# Altium schematic symbol library Resistors.SchLib: 6 symbols
Pins are listed as number, name and electrical type; pins without a type are passive.

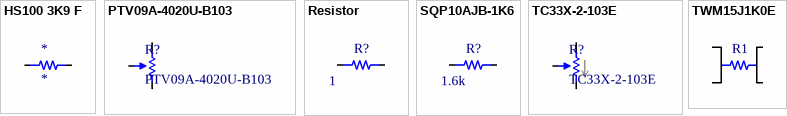
[diagram p0: symbols HS100 3K9 F to TWM15J1K0E]

## HS100 3K9 F
designator *
pins: 1, 2

## PTV09A-4020U-B103
designator R?
10k Ohm 1 Gang Linear Through Hole, Snap In Potentiometer None 1 Kierros Carbon 0.05W, 1/20W PC Pins, Board Locks; ComponentLink1Description: Digikey; ComponentLink1URL: https://www.digikey.com/en/products/detail/bourns-inc/TC33X-2-103E/612911; Value: 10k; Power: 1/20W
footprint PTV09A (HORIZONTAL/REAR MOUNT ROTARY POT)
pins: 1, 2, 3

## Resistor
designator R?  value 1
Tolerance: *
footprint 0603_RES (Chip Resistor, 2-Leads, Body 1.60x0.80mm, IPC Medium Density)
footprint 0805_RES (Chip Resistor, 2-Leads, Body 2.00x1.25mm, IPC Medium Density)
footprint 1206_RES
footprint 2010_RES (Chip Resistor, Body 5.0x2.5mm, IPC High Density)
footprint 2512_RES
pins: 1, 2

## SQP10AJB-1K6
designator R?  value 1.6k
Tolerance: *
footprint SQP10A
pins: 1, 2

## TC33X-2-103E
designator R?
0.1W, 1/10W J Lead Surface Mount Trimmer Potentiometer Cermet Turn Top Adjustment; Value: 10k; ComponentLink1Description: Digikey; ComponentLink1URL: https://www.digikey.com/en/products/detail/bourns-inc/TC33X-2-103E/612911; Power: 1/10W
footprint 35WR
pins: 1, 2, 3

## TWM15J1K0E
designator R1
Metal Oxide Resistors 1K ohm 15W 5% Ceramic Radial; Tolerance: 15%; Resistance: 1k; Power Rating: 15W; ComponentLink1Description: Mouser; ComponentLink1URL: https://www.mouser.com/ProductDetail/Ohmite/TWM15J1K0E?qs=PzGy0jfpSMtyzEQ8%2FRdSzw%3D%3D; ComponentLink2Description: Digi-Key; ComponentLink2URL: https://www.digikey.com/en/products/detail/ohmite/TWM15J1K0E/11689173; ComponentLink3Description: Newark; ComponentLink3URL: https://www.newark.com/ohmite/twm15j1k0e/res-1k-15w-radial-metal-oxide/dp/51AH5357?CMP=AFC-OP; ComponentLink4Description: Datasheet; ComponentLink4URL: https://www.ohmite.com/assets/docs/res_tww_twm.pdf?r=false
footprint TWM15J1K0E
pins: 1, 2, 3, 4